# EAGLE library part MICROBUILDER_DISP_OLED_UG-2832HSWEG02 (library adafruit oled featherwing)
128x32 I2C 0.91" Monochrome OLED Display
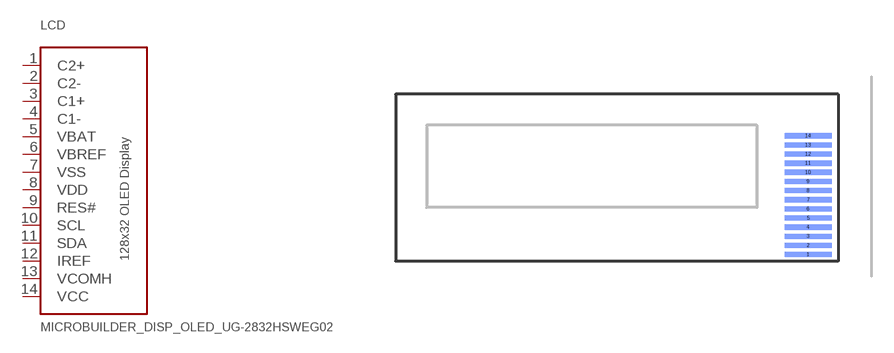
[diagram p0: symbol with the pads of MICROBUILDER_UG-2832HSWEG02_WRAPUNDER; footprint MICROBUILDER_UG-2832HSWEG02_WRAPUNDER]

Designator prefix LCD

## MICROBUILDER_DISP_OLED_UG-2832HSWEG02  [MICROBUILDER_UG-2832HSWEG02_WRAPUNDER]
1  C2+
2  C2-
3  C1+
4  C1-
5  VBAT  pwr
6  VBREF  pwr
7  VSS  pwr
8  VDD  pwr
9  RES#
10  SCL
11  SDA
12  IREF
13  VCOMH  pwr
14  VCC  pwr

## Footprint MICROBUILDER_UG-2832HSWEG02_WRAPUNDER (pad centres in mm)
smd 3.2 x 0.35 bottom: 1 -2.03,-5.3; 2 -2.03,-4.68; 3 -2.03,-4.06; 4 -2.03,-3.44; 5 -2.03,-2.82; 6 -2.03,-2.2; 7 -2.03,-1.58; 8 -2.03,-0.96; 9 -2.03,-0.34; 10 -2.03,0.28; 11 -2.03,0.9; 12 -2.03,1.52; 13 -2.03,2.14; 14 -2.03,2.76